# EAGLE library part TMP102 (library LARS_409_SENSORS)
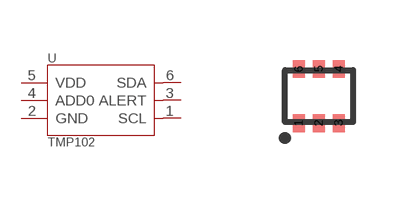
[diagram p8: symbol with the pads of SOT-563; footprint SOT-563]

Designator prefix U

## TMP102  [SOT-563]
1  SCL  in
2  GND  sup
3  ALERT  out
4  ADD0  in
5  VDD  sup
6  SDA

## Footprint SOT-563 (pad centres in mm)
smd 0.3 x 0.45: 1 -0.5,-0.675; 2 0,-0.675; 3 0.5,-0.675; 4 0.5,0.675; 5 0,0.675; 6 -0.5,0.675